# Altium schematic symbol library ISD1760SY.SchLib: 1 symbol
Pins are listed as number, name and electrical type; pins without a type are passive.

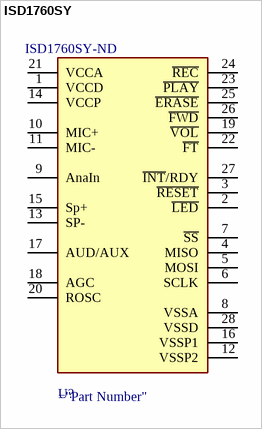
[diagram p0: symbol ISD1760SY]

## ISD1760SY
designator U?  Supplier Part Number 1: ISD1760SY-ND  (hidden comment: ISD1760SY)
Voice Record/Playback IC Multiple Message 40 ~ 120 Sec Pushbutton, SPI 28-SOIC; Manufacturer Part Number: ISD1760SY; Supplier 1: Digi-Key
footprint ISD1760SY
pins: 1 VCCD, 2 ~{LED}, 3 ~{RESET}, 4 MISO, 5 MOSI, 6 SCLK, 7 ~{SS}, 8 VSSA, 9 AnaIn, 10 MIC+, 11 MIC-, 12 VSSP2, 13 SP-, 14 VCCP, 15 Sp+, 16 VSSP1, 17 AUD/AUX, 18 AGC, 19 ~{VOL}, 20 ROSC, 21 VCCA, 22 ~{FT}, 23 ~{PLAY}, 24 ~{REC}, 25 ~{ERASE}, 26 ~{FWD}, 27 ~{INT}/RDY, 28 VSSD